# EAGLE library part LM75A (library custom)
I2C Temperature Sensor -55 to 125 C 11b 8-SOIC
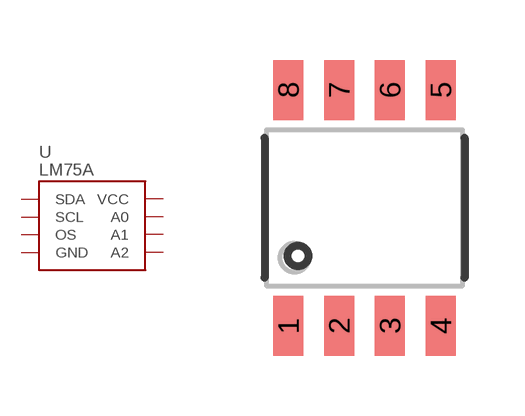
[diagram p135: symbol with the pads of 8-SOIC; footprint 8-SOIC]

Designator prefix U

## LM75A  [8-SOIC]
1  SDA
2  SCL
3  OS
4  GND
5  A2
6  A1
7  A0
8  VCC

## Footprint 8-SOIC (pad centres in mm)
smd 0.75 x 1.5: 1 -1.905,-2.95; 2 -0.635,-2.95; 3 0.635,-2.95; 4 1.905,-2.95; 5 1.905,2.95; 6 0.635,2.95; 7 -0.635,2.95; 8 -1.905,2.95